# Altium footprint library Samsung-MLCC-0805.PcbLib: 18 footprints (part 2 of 2)
Each footprint in its own frame and in the unit in brackets; x right, y up, seen from the top. Pads: shape width x height; smd on the part's side, far side on the other; paste and mask are expansions set on the pad; w line width, h text height; cw(c..) or ccw(c..) is an arc to the next point about the centre after c.
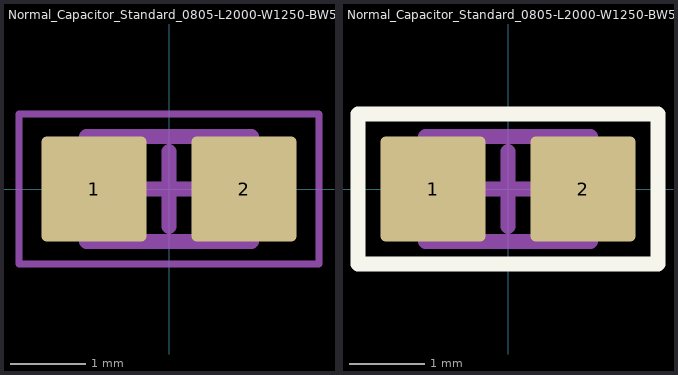
[diagram p1: the footprints below, top view; thin cyan lines are the x and y axes]

## Normal_Capacitor_Standard_0805-L2000-W1250-BW500-H1350 [mm]
height 1.35
pads (2):
  rrect10% 1.4x1.4 smd: 1(-1,0) 2(1,0)
Top Courtyard:
  lines w0.1: -2,-1 2,-1 2,1 -2,1 -2,-1
  lines w0.2: -0.5,0 0.5,0 ; 0,-0.5 0,0.5
Top Assembly:
  lines w0.2: -1.1,-0.7 -1.1,0.7 1.1,0.7 1.1,-0.7 -1.1,-0.7
Top Designator (Mech10):
  text ".Designator" at -7.618,-0.508 h1.52
3D body "SMD_CCAP_0805-H1350.STEP": height 1.35, standoff 0, extent -1,-0.625 1,0.625

## Normal_Capacitor_Standard_0805-L2000-W1250-BW500-H1350 - OVERLAY [mm]
height 1.35
pads (2):
  rrect10% 1.4x1.4 smd: 1(-1,0) 2(1,0)
Top Overlay:
  lines w0.2: -2,-1 2,-1 2,1 -2,1 -2,-1
Top Courtyard:
  lines w0.1: -2,-1 -2,1 2,1 2,-1 -2,-1
  lines w0.2: -0.5,0 0.5,0 ; 0,-0.5 0,0.5
Top Assembly:
  lines w0.2: -1.1,-0.7 1.1,-0.7 1.1,0.7 -1.1,0.7 -1.1,-0.7
Top Designator (Mech10):
  text ".Designator" at -7.618,-0.508 h1.52
3D body "SMD_CCAP_0805-H1350.STEP": height 1.35, standoff 0, extent -1,-0.625 1,0.625